# Altium footprint library DIOAD820W60L400D200.PcbLib: 1 footprints
Each footprint in its own frame and in the unit in brackets; x right, y up, seen from the top. Pads: shape width x height; smd on the part's side, far side on the other; paste and mask are expansions set on the pad; w line width, h text height; cw(c..) or ccw(c..) is an arc to the next point about the centre after c.
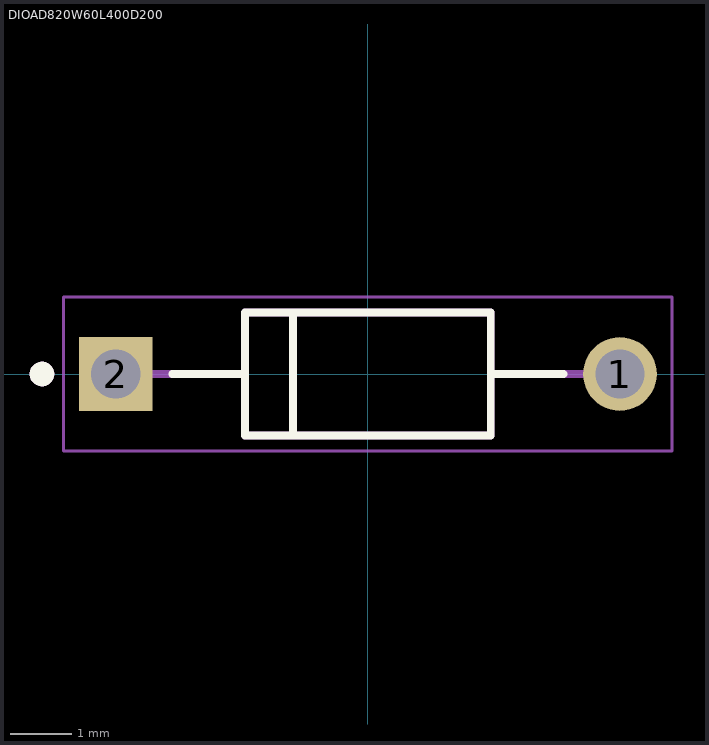
[diagram p0: the footprint, top view; thin cyan lines are the x and y axes]

## DIOAD820W60L400D200 [mm]
pads (2):
  round 1.2 hole 0.8: 1(4.1,0)
  rect 1.2x1.2 hole 0.8: 2(-4.1,0)
Top Overlay:
  circle w0.2: c-5.3,0 r0.1
  lines w0.127: -3.18,0 -2,0 ; -1.215,-0.988 -1.215,0.993 ; 3.18,0 2,0 ; -2,0 -2,-1 2,-1 2,0 ; -2,0 -2,1 2,1 2,0
Mechanical 13:
  circle w0.2: c-5.3,0 r0.1
  lines w0.127: -3.5,0 -2,0 ; 3.5,0 2,0 ; -2,0 -2,-1 2,-1 2,0 ; -2,0 -2,1 2,1 2,0
Mechanical 15:
  lines w0.05: -4.95,-1.25 4.95,-1.25 4.95,1.25 -4.95,1.25 -4.95,-1.25
3D body "NZX3V3A,133 legs fixed.step": height 1.6, standoff -1.2, extent -4.374,-0.756 4.374,0.832